# EAGLE library part MIC4102 (library GW-devices)
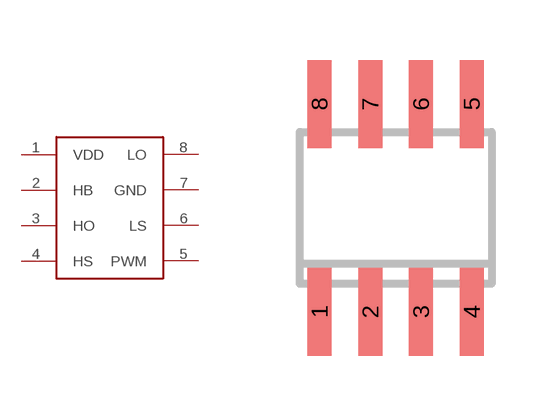
[diagram p44: symbol with the pads of SOIC8; footprint SOIC8]

Designator prefix -

## MIC4102M  [SOIC8]
1  VDD
2  HB
3  HO
4  HS
5  PWM
6  LS
7  GND
8  LO

## Footprint SOIC8 (pad centres in mm)
Small Outline IC
smd 0.6 x 2.2: 1 -1.905,-2.6; 2 -0.635,-2.6; 3 0.635,-2.6; 4 1.905,-2.6; 5 1.905,2.6; 6 0.635,2.6; 7 -0.635,2.6; 8 -1.905,2.6